# Altium schematic symbol library SCD41-D-R2.SchLib: 1 symbol
Pins are listed as number, name and electrical type; pins without a type are passive.

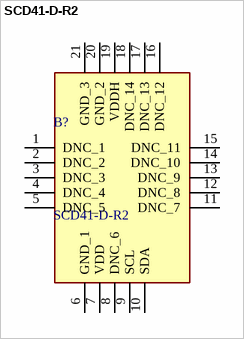
[diagram p0: symbol SCD41-D-R2]

## SCD41-D-R2
designator B?
Air Quality Sensor CO2 Sensor 2.5V/3.3V/5V 20-Pin SMD EP; Manufacturer_Name: Sensirion; Geometry.Height: 6.8mm; Manufacturer_Part_Number: SCD41-D-R2; Mouser Part Number: 403-SCD41-D-R2; Mouser Price/Stock: https://www.mouser.co.uk/ProductDetail/Sensirion/SCD41-D-R2?qs=HBWAp0VN4Ri4o7ei4T3s0g%3D%3D; Arrow Part Number: SCD41-D-R2; Arrow Price/Stock: https://www.arrow.com/en/products/scd41-d-r2/sensirion-ag?utm_currency=USD&region=nac; Datasheet Link: https://cz.mouser.com/datasheet/2/682/Sensirion_CO2_Sensors_SCD4x_Datasheet-2010009.pdf
footprint SCD41DR2
pins: 1 DNC_1, 2 DNC_2, 3 DNC_3, 4 DNC_4, 5 DNC_5, 6 GND_1, 7 VDD, 8 DNC_6, 9 SCL, 10 SDA, 11 DNC_7, 12 DNC_8, 13 DNC_9, 14 DNC_10, 15 DNC_11, 16 DNC_12, 17 DNC_13, 18 DNC_14, 19 VDDH, 20 GND_2, 21 GND_3